# Altium integrated library Microchip PIC16 Part 1.IntLib: 1800 symbols (part 50 of 93)
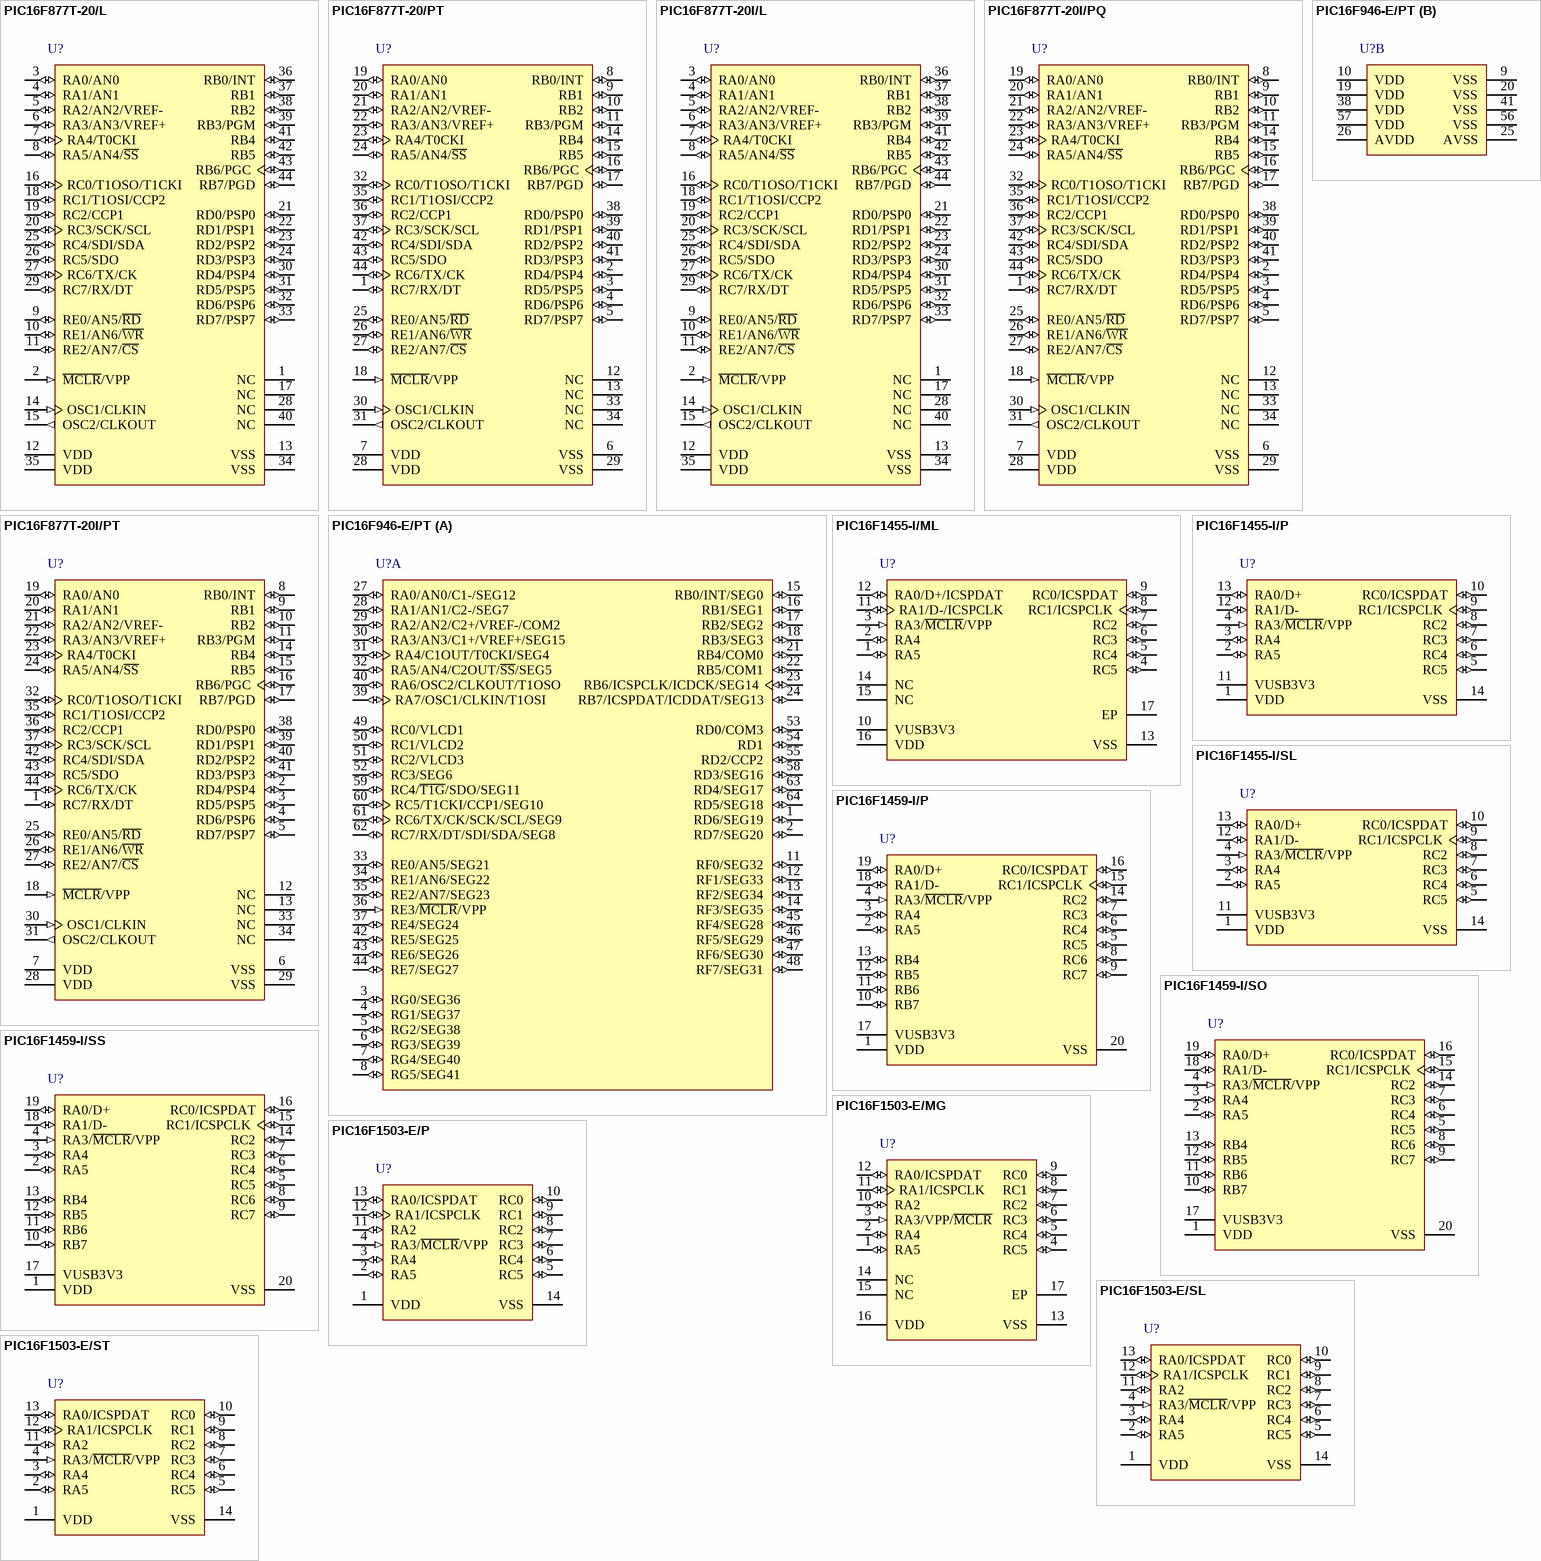
[diagram p148: symbols PIC16F877T-20/L to PIC16F1503-E/ST]

## PIC16F1455-I/ML
designator U?
8-Bit Flash USB Microcontroller with XLP Technology, 48 MHz, 11 I/O, -40 to 85 degC, 16-pin QFN (ML16), Tube; Manufacturer: Microchip; PartNumber: PIC16F1455-I/ML; # of A/D Channels: 5; Digital Communication: 1 -A/E/USART, 1 -MSSP(SPI/I2C); I/O Pins: 11; Max. CPU Speed MHz: 48; Operation Voltage Range: 2.3V - 5.5V; Program Memory KBytes: 14; Program Memory KWords: 8; RAM: 1024; Timers: 2 - 8-bit, 1 - 16-bit, 0 - 32-bit; DatasheetVersion: Rev. A; PackageVersion: C04-127B, 04/2013; PackageReference: QFN-ML16; PackageDescription: 16-Lead Plastic Quad Flat No Lead Package, Body 4 x 4 mm, Pitch 0.65 mm; Supplier 1: Digi-Key; Supplier Part Number 1: PIC16F1455-I/ML-ND; Supplier 2: Farnell; Supplier Part Number 2: 2305812; Supplier 3: Newark; Supplier Part Number 3: 83T7198; Supplier 4: Mouser; Supplier Part Number 4: 579-PIC16F1455-I/ML; Memory Type: Flash; Packing: TUBE; RoHS: TRUE; Mounting Technology: Surface Mount; ComponentLink1Description: Datasheet; ComponentLink1URL: http://ww1.microchip.com/downloads/en/DeviceDoc/41639A.pdf; ComponentLink2Description: Package Specification; ComponentLink2URL: http://www.microchip.com/stellent/groups/techpub_sg/documents/packagingspec/en012702.pdf; ComponentLink3Description: URL Link1; ComponentLink3URL: Product URL:http://www.microchip.com/datasheet/PIC16F1455
footprint MCHP-QFN-ML16_N (QFN, 16-Leads, Body 4x4mm, Pitch 0.65mm, Thermal Pad 2.65x2.65mm, IPC Medium Density)
footprint MCHP-QFN-ML16_L (QFN, 16-Leads, Body 4x4mm, Pitch 0.65mm, Thermal Pad 2.65x2.65mm, IPC High Density)
footprint MCHP-QFN-ML16_M (QFN, 16-Leads, Body 4x4mm, Pitch 0.65mm, Thermal Pad 2.65x2.65mm, IPC Low Density)
pins: 1 RA5 (io), 2 RA4 (io), 3 RA3/~{MCLR}/VPP (in), 4 RC5 (io), 5 RC4 (io), 6 RC3 (io), 7 RC2 (io), 8 RC1/ICSPCLK (io), 9 RC0/ICSPDAT (io), 10 VUSB3V3 (power) "Positive supply for USB transceiver.", 11 RA1/D-/ICSPCLK (io), 12 RA0/D+/ICSPDAT (io), 13 VSS (power) "Ground reference.", 14 NC, 15 NC, 16 VDD (power) "Positive supply.", 17 EP

## PIC16F1455-I/P
designator U?
8-Bit Flash USB Microcontroller with XLP Technology, 48 MHz, 11 I/O, -40 to 85 degC, 14-pin PDIP (P14), Tube; Manufacturer: Microchip; PartNumber: PIC16F1455-I/P; # of A/D Channels: 5; Digital Communication: 1 -A/E/USART, 1 -MSSP(SPI/I2C); I/O Pins: 11; Max. CPU Speed MHz: 48; Operation Voltage Range: 2.3V - 5.5V; Program Memory KBytes: 14; Program Memory KWords: 8; RAM: 1024; Timers: 2 - 8-bit, 1 - 16-bit, 0 - 32-bit; DatasheetVersion: Rev. A; PackageVersion: C04-005B, 12/2012; PackageReference: PDIP-P14; PackageDescription: 14-Lead Plastic Dual In-Line, 6.6 x 19.18 mm Body, 2.54 mm Pitch; Supplier 1: Digi-Key; Supplier Part Number 1: PIC16F1455-I/P-ND; Supplier 2: Farnell; Supplier Part Number 2: 2305813; Supplier 3: Newark; Supplier Part Number 3: 83T7199; Supplier 4: Mouser; Supplier Part Number 4: 579-PIC16F1455-I/P; Memory Type: Flash; Packing: TUBE; RoHS: TRUE; Mounting Technology: Through Hole; ComponentLink1Description: Datasheet; ComponentLink1URL: http://ww1.microchip.com/downloads/en/DeviceDoc/41639A.pdf; ComponentLink2Description: Package Specification; ComponentLink2URL: http://www.microchip.com/stellent/groups/techpub_sg/documents/packagingspec/en012702.pdf; ComponentLink3Description: URL Link1; ComponentLink3URL: Product URL:http://www.microchip.com/datasheet/PIC16F1455
footprint MCHP-PDIP-P14 (DIP, 14-Leads, Body 19.177x6.604mm, Pitch 2.54mm)
pins: 1 VDD (power) "Positive supply.", 2 RA5 (io), 3 RA4 (io), 4 RA3/~{MCLR}/VPP (in), 5 RC5 (io), 6 RC4 (io), 7 RC3 (io), 8 RC2 (io), 9 RC1/ICSPCLK (io), 10 RC0/ICSPDAT (io), 11 VUSB3V3 (power) "Positive supply for USB transceiver.", 12 RA1/D- (io), 13 RA0/D+ (io), 14 VSS (power) "Ground reference."

## PIC16F1455-I/SL
designator U?
8-Bit Flash USB Microcontroller with XLP Technology, 48 MHz, 11 I/O, -40 to 85 degC, 14-pin SOIC (SL14), Tube; Manufacturer: Microchip; PartNumber: PIC16F1455-I/SL; # of A/D Channels: 5; Digital Communication: 1 -A/E/USART, 1 -MSSP(SPI/I2C); I/O Pins: 11; Max. CPU Speed MHz: 48; Operation Voltage Range: 2.3V - 5.5V; Program Memory KBytes: 14; Program Memory KWords: 8; RAM: 1024; Timers: 2 - 8-bit, 1 - 16-bit, 0 - 32-bit; DatasheetVersion: Rev. A; PackageVersion: C04-065C, 12/2012; PackageReference: SOIC-SL14; PackageDescription: 14-Lead Plastic Small Outline, 8.65 x 3.9 mm Body, 1.27 mm Pitch; Supplier 1: Digi-Key; Supplier Part Number 1: PIC16F1455-I/SL-ND; Supplier 2: Farnell; Supplier Part Number 2: 2305814; Supplier 3: Newark; Supplier Part Number 3: 83T7200; Supplier 4: Mouser; Supplier Part Number 4: 579-PIC16F1455-I/SL; Memory Type: Flash; Packing: TUBE; RoHS: TRUE; Mounting Technology: Surface Mount; ComponentLink1Description: Datasheet; ComponentLink1URL: http://ww1.microchip.com/downloads/en/DeviceDoc/41639A.pdf; ComponentLink2Description: Package Specification; ComponentLink2URL: http://www.microchip.com/stellent/groups/techpub_sg/documents/packagingspec/en012702.pdf; ComponentLink3Description: URL Link1; ComponentLink3URL: Product URL:http://www.microchip.com/datasheet/PIC16F1455
footprint MCHP-SOIC-SL14_N (SOIC, 14-Leads, Body 8.65x3.9mm, Pitch 1.27mm, IPC Medium Density)
footprint MCHP-SOIC-SL14_L (SOIC, 14-Leads, Body 8.65x3.9mm, Pitch 1.27mm, IPC High Density)
footprint MCHP-SOIC-SL14_M (SOIC, 14-Leads, Body 8.65x3.9mm, Pitch 1.27mm, IPC Low Density)
pins: 1 VDD (power) "Positive supply.", 2 RA5 (io), 3 RA4 (io), 4 RA3/~{MCLR}/VPP (in), 5 RC5 (io), 6 RC4 (io), 7 RC3 (io), 8 RC2 (io), 9 RC1/ICSPCLK (io), 10 RC0/ICSPDAT (io), 11 VUSB3V3 (power) "Positive supply for USB transceiver.", 12 RA1/D- (io), 13 RA0/D+ (io), 14 VSS (power) "Ground reference."

## PIC16F1459-I/P
designator U?
8-Bit Flash USB Microcontroller with XLP Technology, 48 MHz, 14 I/O, -40 to 85 degC, 20-pin PDIP (P20), Tube; Manufacturer: Microchip; PartNumber: PIC16F1459-I/P; # of A/D Channels: 9; Digital Communication: 1 -A/E/USART, 1 -MSSP(SPI/I2C); I/O Pins: 14; Internal Oscillator: 16 MHz, 31 kHz; Max. CPU Speed MHz: 48; Operation Voltage Range: 2.3V - 5.5V; Program Memory KWords: 8; RAM: 1024; Timers: 2 - 8-bit, 1 - 16-bit, 0 - 32-bit; DatasheetVersion: Rev. A; PackageVersion: C04-019B, 12/2012; PackageReference: PDIP-P20; PackageDescription: 20-Lead Plastic Dual In-Line, Row Spacing 7.62 mm, 25.91 x 6.6 mm Body, 2.54 mm Pitch; Supplier 1: Digi-Key; Supplier Part Number 1: PIC16F1459-I/P-ND; Supplier 2: Farnell; Supplier Part Number 2: 2305816; Supplier 3: Newark; Supplier Part Number 3: 94T7605; Supplier 4: Mouser; Supplier Part Number 4: 579-PIC16F1459-I/P; Memory Type: Flash; Packing: TUBE; Program Memory KBytes: 14; RoHS: TRUE; Mounting Technology: Through Hole; ComponentLink1Description: Datasheet; ComponentLink1URL: http://ww1.microchip.com/downloads/en/DeviceDoc/41639A.pdf; ComponentLink2Description: Package Specification; ComponentLink2URL: http://www.microchip.com/stellent/groups/techpub_sg/documents/packagingspec/en012702.pdf; ComponentLink3Description: URL Link1; ComponentLink3URL: Product URL:http://www.microchip.com/datasheet/PIC16F1459
footprint MCHP-PDIP-P20 (DIP, 20-Leads, Body 25.91x6.6mm, Pitch 2.54mm)
pins: 1 VDD (power) "Positive supply.", 2 RA5 (io), 3 RA4 (io), 4 RA3/~{MCLR}/VPP (in), 5 RC5 (io), 6 RC4 (io), 7 RC3 (io), 8 RC6 (io), 9 RC7 (io), 10 RB7 (io), 11 RB6 (io), 12 RB5 (io), 13 RB4 (io), 14 RC2 (io), 15 RC1/ICSPCLK (io), 16 RC0/ICSPDAT (io), 17 VUSB3V3 (power) "Positive supply for USB transceiver.", 18 RA1/D- (io), 19 RA0/D+ (io), 20 VSS (power) "Ground reference."

## PIC16F1459-I/SO
designator U?
8-Bit Flash USB Microcontroller with XLP Technology, 48 MHz, 14 I/O, -40 to 85 degC, 20-pin SOIC (SO20), Tube; Manufacturer: Microchip; PartNumber: PIC16F1459-I/SO; # of A/D Channels: 9; Digital Communication: 1 -A/E/USART, 1 -MSSP(SPI/I2C); I/O Pins: 14; Internal Oscillator: 16 MHz, 31 kHz; Max. CPU Speed MHz: 48; Operation Voltage Range: 2.3V - 5.5V; Program Memory KWords: 8; RAM: 1024; Timers: 2 - 8-bit, 1 - 16-bit, 0 - 32-bit; DatasheetVersion: Rev. A; PackageVersion: C04-094C, 12/2012; PackageReference: SOIC-SO20; PackageDescription: 20-Lead Plastic Small Outline, 7.5 x 12.8 mm Body, 1.27 mm Pitch; Supplier 1: Digi-Key; Supplier Part Number 1: PIC16F1459-I/SO-ND; Supplier 2: Farnell; Supplier Part Number 2: 2305817; Supplier 3: Newark; Supplier Part Number 3: 83T7220; Supplier 4: Mouser; Supplier Part Number 4: 579-PIC16F1459-I/SO; Memory Type: Flash; Packing: TUBE; Program Memory KBytes: 14; RoHS: TRUE; Mounting Technology: Surface Mount; ComponentLink1Description: Datasheet; ComponentLink1URL: http://ww1.microchip.com/downloads/en/DeviceDoc/41639A.pdf; ComponentLink2Description: Package Specification; ComponentLink2URL: http://www.microchip.com/stellent/groups/techpub_sg/documents/packagingspec/en012702.pdf; ComponentLink3Description: URL Link1; ComponentLink3URL: Product URL:http://www.microchip.com/datasheet/PIC16F1459
footprint MCHP-SOIC-SO20_N (SOIC, 20-Leads, Body 12.8x7.5mm, Pitch 1.27mm, IPC Medium Density)
footprint MCHP-SOIC-SO20_L (SOIC, 20-Leads, Body 12.8x7.5mm, Pitch 1.27mm, IPC High Density)
footprint MCHP-SOIC-SO20_M (SOIC, 20-Leads, Body 12.8x7.5mm, Pitch 1.27mm, IPC Low Density)
pins: 1 VDD (power) "Positive supply.", 2 RA5 (io), 3 RA4 (io), 4 RA3/~{MCLR}/VPP (in), 5 RC5 (io), 6 RC4 (io), 7 RC3 (io), 8 RC6 (io), 9 RC7 (io), 10 RB7 (io), 11 RB6 (io), 12 RB5 (io), 13 RB4 (io), 14 RC2 (io), 15 RC1/ICSPCLK (io), 16 RC0/ICSPDAT (io), 17 VUSB3V3 (power) "Positive supply for USB transceiver.", 18 RA1/D- (io), 19 RA0/D+ (io), 20 VSS (power) "Ground reference."

## PIC16F1459-I/SS
designator U?
8-Bit Flash USB Microcontroller with XLP Technology, 48 MHz, 14 I/O, -40 to 85 degC, 20-pin SSOP (SS20), Tube; Manufacturer: Microchip; PartNumber: PIC16F1459-I/SS; # of A/D Channels: 9; Digital Communication: 1 -A/E/USART, 1 -MSSP(SPI/I2C); I/O Pins: 14; Internal Oscillator: 16 MHz, 31 kHz; Max. CPU Speed MHz: 48; Operation Voltage Range: 2.3V - 5.5V; Program Memory KWords: 8; RAM: 1024; Timers: 2 - 8-bit, 1 - 16-bit, 0 - 32-bit; DatasheetVersion: Rev. A; PackageVersion: C04-072B, 12/2012; PackageReference: SSOP-SS20; PackageDescription: 20-Lead Plastic Shrink Small Outline, 5.3 x 7.2 mm Body, 0.65 mm Pitch; Supplier 1: Digi-Key; Supplier Part Number 1: PIC16F1459-I/SS-ND; Supplier 2: Farnell; Supplier Part Number 2: 2305818; Supplier 3: Newark; Supplier Part Number 3: 83T7221; Supplier 4: Newark; Supplier Part Number 4: 69W6672; Supplier 5: Mouser; Supplier Part Number 5: 579-PIC16F1459-I/SS; Memory Type: Flash; Packing: TUBE; Program Memory KBytes: 14; RoHS: TRUE; Mounting Technology: Surface Mount; ComponentLink1Description: Datasheet; ComponentLink1URL: http://ww1.microchip.com/downloads/en/DeviceDoc/41639A.pdf; ComponentLink2Description: Package Specification; ComponentLink2URL: http://www.microchip.com/stellent/groups/techpub_sg/documents/packagingspec/en012702.pdf; ComponentLink3Description: URL Link1; ComponentLink3URL: Product URL:http://www.microchip.com/datasheet/PIC16F1459
footprint MCHP-SSOP-SS20_N (SOP, 20-Leads, Body 7.2x5.3mm, Pitch 0.65mm, IPC Medium Density)
footprint MCHP-SSOP-SS20_L (SOP, 20-Leads, Body 7.2x5.3mm, Pitch 0.65mm, IPC High Density)
footprint MCHP-SSOP-SS20_M (SOP, 20-Leads, Body 7.2x5.3mm, Pitch 0.65mm, IPC Low Density)
pins: 1 VDD (power) "Positive supply.", 2 RA5 (io), 3 RA4 (io), 4 RA3/~{MCLR}/VPP (in), 5 RC5 (io), 6 RC4 (io), 7 RC3 (io), 8 RC6 (io), 9 RC7 (io), 10 RB7 (io), 11 RB6 (io), 12 RB5 (io), 13 RB4 (io), 14 RC2 (io), 15 RC1/ICSPCLK (io), 16 RC0/ICSPDAT (io), 17 VUSB3V3 (power) "Positive supply for USB transceiver.", 18 RA1/D- (io), 19 RA0/D+ (io), 20 VSS (power) "Ground reference."

## PIC16F1503-E/MG
designator U?
Flash, 8-Bit Microcontroller, 20 MHz, 11 I/O, -40 to 125 degC, 16-pin QFN (MG16), Tube; Manufacturer: Microchip; PartNumber: PIC16F1503-E/MG; # of A/D Channels: 8; Digital Communication: 1 -MSSP(SPI/I2C); I/O Pins: 11; Internal Oscillator: 16 MHz, 31 kHz; Max. CPU Speed MHz: 20; Operation Voltage Range: 2.3V - 5.5V; Program Memory KBytes: 3.5; Program Memory KWords: 2; RAM: 128; Timers: 2 - 8-bit, 1 - 16-bit; DatasheetVersion: Rev. A; PackageVersion: C04-142A, 12/2012; PackageReference: QFN-MG16; PackageDescription: 16-Lead Plastic Quad Flat, No Lead Package, 3 x 3 mm Body, 0.5 mm Pitch; Supplier 1: Digi-Key; Supplier Part Number 1: PIC16F1503-E/MG-ND; Supplier 2: Newark; Supplier Part Number 2: 55T3628; Supplier 3: Mouser; Supplier Part Number 3: 579-PIC16F1503-E/MG; Memory Type: Flash; Packing: TUBE; RoHS: TRUE; Mounting Technology: Surface Mount; ComponentLink1Description: Datasheet; ComponentLink1URL: http://ww1.microchip.com/downloads/en/DeviceDoc/41607A.pdf; ComponentLink2Description: Package Specification; ComponentLink2URL: http://www.microchip.com/stellent/groups/techpub_sg/documents/packagingspec/en012702.pdf; ComponentLink3Description: URL Link1; ComponentLink3URL: Product URL:http://www.microchip.com/datasheet/PIC16F1503
footprint MCHP-QFN-MG16_N (QFN, 16-Leads, Body 3x3mm, Pitch 0.5mm, Thermal Pad 1.25x1.25mm, IPC Medium Density)
footprint MCHP-QFN-MG16_L (QFN, 16-Leads, Body 3x3mm, Pitch 0.5mm, Thermal Pad 1.25x1.25mm, IPC High Density)
footprint MCHP-QFN-MG16_M (QFN, 16-Leads, Body 3x3mm, Pitch 0.5mm, Thermal Pad 1.25x1.25mm, IPC Low Density)
pins: 1 RA5 (io), 2 RA4 (io), 3 RA3/VPP/~{MCLR} (in), 4 RC5 (io), 5 RC4 (io), 6 RC3 (io), 7 RC2 (io), 8 RC1 (io), 9 RC0 (io), 10 RA2 (io), 11 RA1/ICSPCLK (io), 12 RA0/ICSPDAT (io), 13 VSS (power) "Ground reference.", 14 NC, 15 NC, 16 VDD (power) "Positive supply.", 17 EP

## PIC16F1503-E/P
designator U?
Flash, 8-Bit Microcontroller, 20 MHz, 11 I/O, -40 to 125 degC, 14-pin PDIP (P14), Tube; Manufacturer: Microchip; PartNumber: PIC16F1503-E/P; # of A/D Channels: 8; Digital Communication: 1 -MSSP(SPI/I2C); I/O Pins: 11; Internal Oscillator: 16 MHz, 31 kHz; Max. CPU Speed MHz: 20; Operation Voltage Range: 2.3V - 5.5V; Program Memory KBytes: 3.5; Program Memory KWords: 2; RAM: 128; Timers: 2 - 8-bit, 1 - 16-bit; DatasheetVersion: Rev. A; PackageVersion: C04-005B, 12/2012; PackageReference: PDIP-P14; PackageDescription: 14-Lead Plastic Dual In-Line, 6.6 x 19.18 mm Body, 2.54 mm Pitch; Supplier 1: Digi-Key; Supplier Part Number 1: PIC16F1503-E/P-ND; Supplier 2: Mouser; Supplier Part Number 2: 579-PIC16F1503-E/P; Memory Type: Flash; Packing: TUBE; RoHS: TRUE; Mounting Technology: Through Hole; ComponentLink1Description: Datasheet; ComponentLink1URL: http://ww1.microchip.com/downloads/en/DeviceDoc/41607A.pdf; ComponentLink2Description: Package Specification; ComponentLink2URL: http://www.microchip.com/stellent/groups/techpub_sg/documents/packagingspec/en012702.pdf; ComponentLink3Description: URL Link1; ComponentLink3URL: Product URL:http://www.microchip.com/datasheet/PIC16F1503
footprint MCHP-PDIP-P14 (DIP, 14-Leads, Body 19.177x6.604mm, Pitch 2.54mm)
pins: 1 VDD (power) "Positive supply", 2 RA5 (io), 3 RA4 (io), 4 RA3/~{MCLR}/VPP (in), 5 RC5 (io), 6 RC4 (io), 7 RC3 (io), 8 RC2 (io), 9 RC1 (io), 10 RC0 (io), 11 RA2 (io), 12 RA1/ICSPCLK (io), 13 RA0/ICSPDAT (io), 14 VSS (power) "Ground reference."

## PIC16F1503-E/SL
designator U?
Flash, 8-Bit Microcontroller, 20 MHz, 11 I/O, -40 to 125 degC, 14-pin SOIC (SL14), Tube; Manufacturer: Microchip; PartNumber: PIC16F1503-E/SL; # of A/D Channels: 8; Digital Communication: 1 -MSSP(SPI/I2C); I/O Pins: 11; Internal Oscillator: 16 MHz, 31 kHz; Max. CPU Speed MHz: 20; Operation Voltage Range: 2.3V - 5.5V; Program Memory KBytes: 3.5; Program Memory KWords: 2; RAM: 128; Timers: 2 - 8-bit, 1 - 16-bit; DatasheetVersion: Rev. A; PackageVersion: C04-065C, 12/2012; PackageReference: SOIC-SL14; PackageDescription: 14-Lead Plastic Small Outline, 8.65 x 3.9 mm Body, 1.27 mm Pitch; Supplier 1: Digi-Key; Supplier Part Number 1: PIC16F1503-E/SL-ND; Supplier 2: Newark; Supplier Part Number 2: 55T3630; Supplier 3: Mouser; Supplier Part Number 3: 579-PIC16F1503-E/SL; Memory Type: Flash; Packing: TUBE; RoHS: TRUE; Mounting Technology: Surface Mount; ComponentLink1Description: Datasheet; ComponentLink1URL: http://ww1.microchip.com/downloads/en/DeviceDoc/41607A.pdf; ComponentLink2Description: Package Specification; ComponentLink2URL: http://www.microchip.com/stellent/groups/techpub_sg/documents/packagingspec/en012702.pdf; ComponentLink3Description: URL Link1; ComponentLink3URL: Product URL:http://www.microchip.com/datasheet/PIC16F1503
footprint MCHP-SOIC-SL14_N (SOIC, 14-Leads, Body 8.65x3.9mm, Pitch 1.27mm, IPC Medium Density)
footprint MCHP-SOIC-SL14_L (SOIC, 14-Leads, Body 8.65x3.9mm, Pitch 1.27mm, IPC High Density)
footprint MCHP-SOIC-SL14_M (SOIC, 14-Leads, Body 8.65x3.9mm, Pitch 1.27mm, IPC Low Density)
pins: 1 VDD (power) "Positive supply", 2 RA5 (io), 3 RA4 (io), 4 RA3/~{MCLR}/VPP (in), 5 RC5 (io), 6 RC4 (io), 7 RC3 (io), 8 RC2 (io), 9 RC1 (io), 10 RC0 (io), 11 RA2 (io), 12 RA1/ICSPCLK (io), 13 RA0/ICSPDAT (io), 14 VSS (power) "Ground reference."

## PIC16F1503-E/ST
designator U?
Flash, 8-Bit Microcontroller, 20 MHz, 11 I/O, -40 to 125 degC, 14-pin TSSOP (ST14), Tube; Manufacturer: Microchip; PartNumber: PIC16F1503-E/ST; # of A/D Channels: 8; Digital Communication: 1 -MSSP(SPI/I2C); I/O Pins: 11; Internal Oscillator: 16 MHz, 31 kHz; Max. CPU Speed MHz: 20; Operation Voltage Range: 2.3V - 5.5V; Program Memory KBytes: 3.5; Program Memory KWords: 2; RAM: 128; Timers: 2 - 8-bit, 1 - 16-bit; DatasheetVersion: Rev. A; PackageVersion: C04-087C, 12/2012; PackageReference: TSSOP-ST14; PackageDescription: 14-Lead Plastic Thin Shrink Small Outline, 5 x 4.4 mm Body, 0.65 mm Pitch; Supplier 1: Digi-Key; Supplier Part Number 1: PIC16F1503-E/ST-ND; Supplier 2: Newark; Supplier Part Number 2: 55T3631; Supplier 3: Mouser; Supplier Part Number 3: 579-PIC16F1503-E/ST; Memory Type: Flash; Packing: TUBE; RoHS: TRUE; Mounting Technology: Surface Mount; ComponentLink1Description: Datasheet; ComponentLink1URL: http://ww1.microchip.com/downloads/en/DeviceDoc/41607A.pdf; ComponentLink2Description: Package Specification; ComponentLink2URL: http://www.microchip.com/stellent/groups/techpub_sg/documents/packagingspec/en012702.pdf; ComponentLink3Description: URL Link1; ComponentLink3URL: Product URL:http://www.microchip.com/datasheet/PIC16F1503
footprint MCHP-TSSOP-ST14_N (SOP, 14-Leads, Body 5x4.4mm, Pitch 0.65mm, IPC Medium Density)
footprint MCHP-TSSOP-ST14_L (SOP, 14-Leads, Body 5x4.4mm, Pitch 0.65mm, IPC High Density)
footprint MCHP-TSSOP-ST14_M (SOP, 14-Leads, Body 5x4.4mm, Pitch 0.65mm, IPC Low Density)
pins: 1 VDD (power) "Positive supply", 2 RA5 (io), 3 RA4 (io), 4 RA3/~{MCLR}/VPP (in), 5 RC5 (io), 6 RC4 (io), 7 RC3 (io), 8 RC2 (io), 9 RC1 (io), 10 RC0 (io), 11 RA2 (io), 12 RA1/ICSPCLK (io), 13 RA0/ICSPDAT (io), 14 VSS (power) "Ground reference."

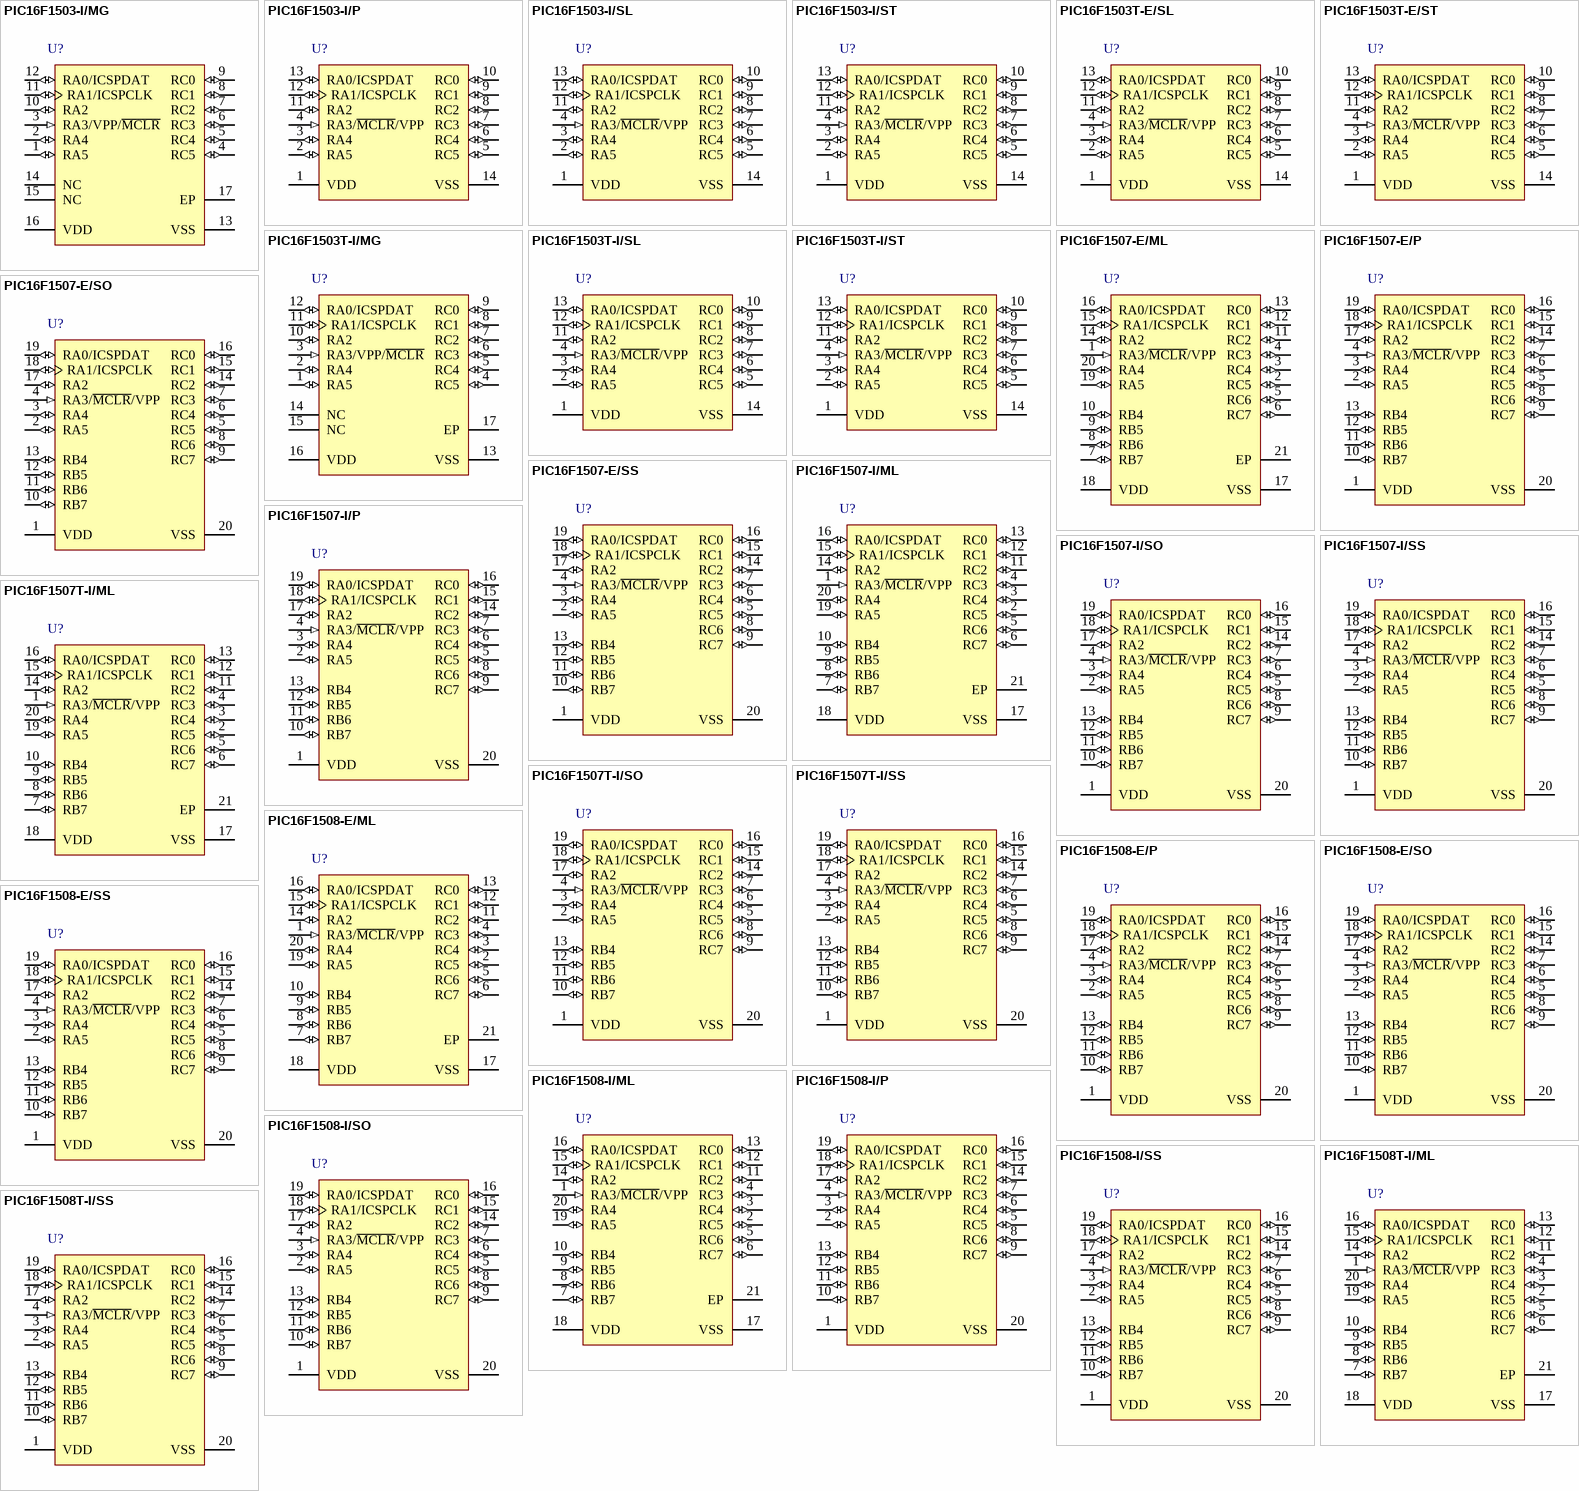
[diagram p49: symbols PIC16F1503-I/MG to PIC16F1508T-I/SS]

## PIC16F1503-I/MG
designator U?
Flash, 8-Bit Microcontroller, 20 MHz, 11 I/O, -40 to 85 degC, 16-pin QFN (MG16), Tube; Manufacturer: Microchip; PartNumber: PIC16F1503-I/MG; # of A/D Channels: 8; Digital Communication: 1 -MSSP(SPI/I2C); I/O Pins: 11; Internal Oscillator: 16 MHz, 31 kHz; Max. CPU Speed MHz: 20; Operation Voltage Range: 2.3V - 5.5V; Program Memory KBytes: 3.5; Program Memory KWords: 2; RAM: 128; Timers: 2 - 8-bit, 1 - 16-bit; DatasheetVersion: Rev. A; PackageVersion: C04-142A, 12/2012; PackageReference: QFN-MG16; PackageDescription: 16-Lead Plastic Quad Flat, No Lead Package, 3 x 3 mm Body, 0.5 mm Pitch; Supplier 1: Digi-Key; Supplier Part Number 1: PIC16F1503-I/MG-ND; Supplier 2: Farnell; Supplier Part Number 2: 2068607; Supplier 3: Newark; Supplier Part Number 3: 55T3632; Supplier 4: Mouser; Supplier Part Number 4: 579-PIC16F1503-I/MG; Memory Type: Flash; Packing: TUBE; RoHS: TRUE; Mounting Technology: Surface Mount; ComponentLink1Description: Datasheet; ComponentLink1URL: http://ww1.microchip.com/downloads/en/DeviceDoc/41607A.pdf; ComponentLink2Description: Package Specification; ComponentLink2URL: http://www.microchip.com/stellent/groups/techpub_sg/documents/packagingspec/en012702.pdf; ComponentLink3Description: URL Link1; ComponentLink3URL: Product URL:http://www.microchip.com/datasheet/PIC16F1503
footprint MCHP-QFN-MG16_N (QFN, 16-Leads, Body 3x3mm, Pitch 0.5mm, Thermal Pad 1.25x1.25mm, IPC Medium Density)
footprint MCHP-QFN-MG16_L (QFN, 16-Leads, Body 3x3mm, Pitch 0.5mm, Thermal Pad 1.25x1.25mm, IPC High Density)
footprint MCHP-QFN-MG16_M (QFN, 16-Leads, Body 3x3mm, Pitch 0.5mm, Thermal Pad 1.25x1.25mm, IPC Low Density)
pins: 1 RA5 (io), 2 RA4 (io), 3 RA3/VPP/~{MCLR} (in), 4 RC5 (io), 5 RC4 (io), 6 RC3 (io), 7 RC2 (io), 8 RC1 (io), 9 RC0 (io), 10 RA2 (io), 11 RA1/ICSPCLK (io), 12 RA0/ICSPDAT (io), 13 VSS (power) "Ground reference.", 14 NC, 15 NC, 16 VDD (power) "Positive supply.", 17 EP

## PIC16F1503-I/P
designator U?
Flash, 8-Bit Microcontroller, 20 MHz, 11 I/O, -40 to 85 degC, 14-pin PDIP (P14), Tube; Manufacturer: Microchip; PartNumber: PIC16F1503-I/P; # of A/D Channels: 8; Digital Communication: 1 -MSSP(SPI/I2C); I/O Pins: 11; Internal Oscillator: 16 MHz, 31 kHz; Max. CPU Speed MHz: 20; Operation Voltage Range: 2.3V - 5.5V; Program Memory KBytes: 3.5; Program Memory KWords: 2; RAM: 128; Timers: 2 - 8-bit, 1 - 16-bit; DatasheetVersion: Rev. A; PackageVersion: C04-005B, 12/2012; PackageReference: PDIP-P14; PackageDescription: 14-Lead Plastic Dual In-Line, 6.6 x 19.18 mm Body, 2.54 mm Pitch; Supplier 1: Digi-Key; Supplier Part Number 1: PIC16F1503-I/P-ND; Supplier 2: Farnell; Supplier Part Number 2: 2068608; Supplier 3: Newark; Supplier Part Number 3: 55T3633; Supplier 4: Mouser; Supplier Part Number 4: 579-PIC16F1503-I/P; Memory Type: Flash; Packing: TUBE; RoHS: TRUE; Mounting Technology: Through Hole; ComponentLink1Description: Datasheet; ComponentLink1URL: http://ww1.microchip.com/downloads/en/DeviceDoc/41607A.pdf; ComponentLink2Description: Package Specification; ComponentLink2URL: http://www.microchip.com/stellent/groups/techpub_sg/documents/packagingspec/en012702.pdf; ComponentLink3Description: URL Link1; ComponentLink3URL: Product URL:http://www.microchip.com/datasheet/PIC16F1503
footprint MCHP-PDIP-P14 (DIP, 14-Leads, Body 19.177x6.604mm, Pitch 2.54mm)
pins: 1 VDD (power) "Positive supply", 2 RA5 (io), 3 RA4 (io), 4 RA3/~{MCLR}/VPP (in), 5 RC5 (io), 6 RC4 (io), 7 RC3 (io), 8 RC2 (io), 9 RC1 (io), 10 RC0 (io), 11 RA2 (io), 12 RA1/ICSPCLK (io), 13 RA0/ICSPDAT (io), 14 VSS (power) "Ground reference."

## PIC16F1503-I/SL
designator U?
Flash, 8-Bit Microcontroller, 20 MHz, 11 I/O, -40 to 85 degC, 14-pin SOIC (SL14), Tube; Manufacturer: Microchip; PartNumber: PIC16F1503-I/SL; # of A/D Channels: 8; Digital Communication: 1 -MSSP(SPI/I2C); I/O Pins: 11; Internal Oscillator: 16 MHz, 31 kHz; Max. CPU Speed MHz: 20; Operation Voltage Range: 2.3V - 5.5V; Program Memory KBytes: 3.5; Program Memory KWords: 2; RAM: 128; Timers: 2 - 8-bit, 1 - 16-bit; DatasheetVersion: Rev. A; PackageVersion: C04-065C, 12/2012; PackageReference: SOIC-SL14; PackageDescription: 14-Lead Plastic Small Outline, 8.65 x 3.9 mm Body, 1.27 mm Pitch; Supplier 1: Digi-Key; Supplier Part Number 1: PIC16F1503-I/SL-ND; Supplier 2: Farnell; Supplier Part Number 2: 2068609; Supplier 3: Newark; Supplier Part Number 3: 55T3634; Supplier 4: Mouser; Supplier Part Number 4: 579-PIC16F1503-I/SL; Memory Type: Flash; Packing: TUBE; RoHS: TRUE; Mounting Technology: Surface Mount; ComponentLink1Description: Datasheet; ComponentLink1URL: http://ww1.microchip.com/downloads/en/DeviceDoc/41607A.pdf; ComponentLink2Description: Package Specification; ComponentLink2URL: http://www.microchip.com/stellent/groups/techpub_sg/documents/packagingspec/en012702.pdf; ComponentLink3Description: URL Link1; ComponentLink3URL: Product URL:http://www.microchip.com/datasheet/PIC16F1503
footprint MCHP-SOIC-SL14_N (SOIC, 14-Leads, Body 8.65x3.9mm, Pitch 1.27mm, IPC Medium Density)
footprint MCHP-SOIC-SL14_L (SOIC, 14-Leads, Body 8.65x3.9mm, Pitch 1.27mm, IPC High Density)
footprint MCHP-SOIC-SL14_M (SOIC, 14-Leads, Body 8.65x3.9mm, Pitch 1.27mm, IPC Low Density)
pins: 1 VDD (power) "Positive supply", 2 RA5 (io), 3 RA4 (io), 4 RA3/~{MCLR}/VPP (in), 5 RC5 (io), 6 RC4 (io), 7 RC3 (io), 8 RC2 (io), 9 RC1 (io), 10 RC0 (io), 11 RA2 (io), 12 RA1/ICSPCLK (io), 13 RA0/ICSPDAT (io), 14 VSS (power) "Ground reference."

## PIC16F1503-I/ST
designator U?
Flash, 8-Bit Microcontroller, 20 MHz, 11 I/O, -40 to 85 degC, 14-pin TSSOP (ST14), Tube; Manufacturer: Microchip; PartNumber: PIC16F1503-I/ST; # of A/D Channels: 8; Digital Communication: 1 -MSSP(SPI/I2C); I/O Pins: 11; Internal Oscillator: 16 MHz, 31 kHz; Max. CPU Speed MHz: 20; Operation Voltage Range: 2.3V - 5.5V; Program Memory KBytes: 3.5; Program Memory KWords: 2; RAM: 128; Timers: 2 - 8-bit, 1 - 16-bit; DatasheetVersion: Rev. A; PackageVersion: C04-087C, 12/2012; PackageReference: TSSOP-ST14; PackageDescription: 14-Lead Plastic Thin Shrink Small Outline, 5 x 4.4 mm Body, 0.65 mm Pitch; Supplier 1: Digi-Key; Supplier Part Number 1: PIC16F1503-I/ST-ND; Supplier 2: Farnell; Supplier Part Number 2: 2068610; Supplier 3: Newark; Supplier Part Number 3: 55T3635; Supplier 4: Mouser; Supplier Part Number 4: 579-PIC16F1503-I/ST; Memory Type: Flash; Packing: TUBE; RoHS: TRUE; Mounting Technology: Surface Mount; ComponentLink1Description: Datasheet; ComponentLink1URL: http://ww1.microchip.com/downloads/en/DeviceDoc/41607A.pdf; ComponentLink2Description: Package Specification; ComponentLink2URL: http://www.microchip.com/stellent/groups/techpub_sg/documents/packagingspec/en012702.pdf; ComponentLink3Description: URL Link1; ComponentLink3URL: Product URL:http://www.microchip.com/datasheet/PIC16F1503
footprint MCHP-TSSOP-ST14_N (SOP, 14-Leads, Body 5x4.4mm, Pitch 0.65mm, IPC Medium Density)
footprint MCHP-TSSOP-ST14_L (SOP, 14-Leads, Body 5x4.4mm, Pitch 0.65mm, IPC High Density)
footprint MCHP-TSSOP-ST14_M (SOP, 14-Leads, Body 5x4.4mm, Pitch 0.65mm, IPC Low Density)
pins: 1 VDD (power) "Positive supply", 2 RA5 (io), 3 RA4 (io), 4 RA3/~{MCLR}/VPP (in), 5 RC5 (io), 6 RC4 (io), 7 RC3 (io), 8 RC2 (io), 9 RC1 (io), 10 RC0 (io), 11 RA2 (io), 12 RA1/ICSPCLK (io), 13 RA0/ICSPDAT (io), 14 VSS (power) "Ground reference."

## PIC16F1503T-E/SL
designator U?
Flash, 8-Bit Microcontroller, 20 MHz, 11 I/O, -40 to 125 degC, 14-pin SOIC (SL14), Tape and Reel; Manufacturer: Microchip; PartNumber: PIC16F1503T-E/SL; # of A/D Channels: 8; Digital Communication: 1 -MSSP(SPI/I2C); I/O Pins: 11; Internal Oscillator: 16 MHz, 31 kHz; Max. CPU Speed MHz: 20; Operation Voltage Range: 2.3V - 5.5V; Packing: T/R; Program Memory KBytes: 3.5; Program Memory KWords: 2; RAM: 128; Timers: 2 - 8-bit, 1 - 16-bit; DatasheetVersion: Rev. A; PackageVersion: C04-065C, 12/2012; PackageReference: SOIC-SL14; PackageDescription: 14-Lead Plastic Small Outline, 8.65 x 3.9 mm Body, 1.27 mm Pitch; Memory Type: Flash; RoHS: TRUE; Mounting Technology: Surface Mount; ComponentLink1Description: Datasheet; ComponentLink1URL: http://ww1.microchip.com/downloads/en/DeviceDoc/41607A.pdf; ComponentLink2Description: Package Specification; ComponentLink2URL: http://www.microchip.com/stellent/groups/techpub_sg/documents/packagingspec/en012702.pdf; ComponentLink3Description: URL Link1; ComponentLink3URL: Product URL:http://www.microchip.com/datasheet/PIC16F1503
footprint MCHP-SOIC-SL14_N (SOIC, 14-Leads, Body 8.65x3.9mm, Pitch 1.27mm, IPC Medium Density)
footprint MCHP-SOIC-SL14_L (SOIC, 14-Leads, Body 8.65x3.9mm, Pitch 1.27mm, IPC High Density)
footprint MCHP-SOIC-SL14_M (SOIC, 14-Leads, Body 8.65x3.9mm, Pitch 1.27mm, IPC Low Density)
pins: 1 VDD (power) "Positive supply", 2 RA5 (io), 3 RA4 (io), 4 RA3/~{MCLR}/VPP (in), 5 RC5 (io), 6 RC4 (io), 7 RC3 (io), 8 RC2 (io), 9 RC1 (io), 10 RC0 (io), 11 RA2 (io), 12 RA1/ICSPCLK (io), 13 RA0/ICSPDAT (io), 14 VSS (power) "Ground reference."

## PIC16F1503T-E/ST
designator U?
Flash, 8-Bit Microcontroller, 20 MHz, 11 I/O, -40 to 125 degC, 14-pin TSSOP (ST14), Tape and Reel; Manufacturer: Microchip; PartNumber: PIC16F1503T-E/ST; # of A/D Channels: 8; Digital Communication: 1 -MSSP(SPI/I2C); I/O Pins: 11; Internal Oscillator: 16 MHz, 31 kHz; Max. CPU Speed MHz: 20; Operation Voltage Range: 2.3V - 5.5V; Packing: T/R; Program Memory KBytes: 3.5; Program Memory KWords: 2; RAM: 128; Timers: 2 - 8-bit, 1 - 16-bit; DatasheetVersion: Rev. A; PackageVersion: C04-087C, 12/2012; PackageReference: TSSOP-ST14; PackageDescription: 14-Lead Plastic Thin Shrink Small Outline, 5 x 4.4 mm Body, 0.65 mm Pitch; Memory Type: Flash; RoHS: TRUE; Mounting Technology: Surface Mount; ComponentLink1Description: Datasheet; ComponentLink1URL: http://ww1.microchip.com/downloads/en/DeviceDoc/41607A.pdf; ComponentLink2Description: Package Specification; ComponentLink2URL: http://www.microchip.com/stellent/groups/techpub_sg/documents/packagingspec/en012702.pdf; ComponentLink3Description: URL Link1; ComponentLink3URL: Product URL:http://www.microchip.com/datasheet/PIC16F1503
footprint MCHP-TSSOP-ST14_N (SOP, 14-Leads, Body 5x4.4mm, Pitch 0.65mm, IPC Medium Density)
footprint MCHP-TSSOP-ST14_L (SOP, 14-Leads, Body 5x4.4mm, Pitch 0.65mm, IPC High Density)
footprint MCHP-TSSOP-ST14_M (SOP, 14-Leads, Body 5x4.4mm, Pitch 0.65mm, IPC Low Density)
pins: 1 VDD (power) "Positive supply", 2 RA5 (io), 3 RA4 (io), 4 RA3/~{MCLR}/VPP (in), 5 RC5 (io), 6 RC4 (io), 7 RC3 (io), 8 RC2 (io), 9 RC1 (io), 10 RC0 (io), 11 RA2 (io), 12 RA1/ICSPCLK (io), 13 RA0/ICSPDAT (io), 14 VSS (power) "Ground reference."

## PIC16F1503T-I/MG
designator U?
Flash, 8-Bit Microcontroller, 20 MHz, 11 I/O, -40 to 85 degC, 16-pin QFN (MG16), Tape and Reel; Manufacturer: Microchip; PartNumber: PIC16F1503T-I/MG; # of A/D Channels: 8; Digital Communication: 1 -MSSP(SPI/I2C); I/O Pins: 11; Internal Oscillator: 16 MHz, 31 kHz; Max. CPU Speed MHz: 20; Operation Voltage Range: 2.3V - 5.5V; Packing: T/R; Program Memory KBytes: 3.5; Program Memory KWords: 2; RAM: 128; Timers: 2 - 8-bit, 1 - 16-bit; DatasheetVersion: Rev. A; PackageVersion: C04-142A, 12/2012; PackageReference: QFN-MG16; PackageDescription: 16-Lead Plastic Quad Flat, No Lead Package, 3 x 3 mm Body, 0.5 mm Pitch; Supplier 1: Digi-Key; Supplier Part Number 1: PIC16F1503T-I/MG-ND; Supplier 2: Mouser; Supplier Part Number 2: 579-PIC16F1503T-I/MG; Memory Type: Flash; RoHS: TRUE; Mounting Technology: Surface Mount; ComponentLink1Description: Datasheet; ComponentLink1URL: http://ww1.microchip.com/downloads/en/DeviceDoc/41607A.pdf; ComponentLink2Description: Package Specification; ComponentLink2URL: http://www.microchip.com/stellent/groups/techpub_sg/documents/packagingspec/en012702.pdf; ComponentLink3Description: URL Link1; ComponentLink3URL: Product URL:http://www.microchip.com/datasheet/PIC16F1503
footprint MCHP-QFN-MG16_N (QFN, 16-Leads, Body 3x3mm, Pitch 0.5mm, Thermal Pad 1.25x1.25mm, IPC Medium Density)
footprint MCHP-QFN-MG16_L (QFN, 16-Leads, Body 3x3mm, Pitch 0.5mm, Thermal Pad 1.25x1.25mm, IPC High Density)
footprint MCHP-QFN-MG16_M (QFN, 16-Leads, Body 3x3mm, Pitch 0.5mm, Thermal Pad 1.25x1.25mm, IPC Low Density)
pins: 1 RA5 (io), 2 RA4 (io), 3 RA3/VPP/~{MCLR} (in), 4 RC5 (io), 5 RC4 (io), 6 RC3 (io), 7 RC2 (io), 8 RC1 (io), 9 RC0 (io), 10 RA2 (io), 11 RA1/ICSPCLK (io), 12 RA0/ICSPDAT (io), 13 VSS (power) "Ground reference.", 14 NC, 15 NC, 16 VDD (power) "Positive supply.", 17 EP

## PIC16F1503T-I/SL
designator U?
Flash, 8-Bit Microcontroller, 20 MHz, 11 I/O, -40 to 85 degC, 14-pin SOIC (SL14), Tape and Reel; Manufacturer: Microchip; PartNumber: PIC16F1503T-I/SL; # of A/D Channels: 8; Digital Communication: 1 -MSSP(SPI/I2C); I/O Pins: 11; Internal Oscillator: 16 MHz, 31 kHz; Max. CPU Speed MHz: 20; Operation Voltage Range: 2.3V - 5.5V; Packing: T/R; Program Memory KBytes: 3.5; Program Memory KWords: 2; RAM: 128; Timers: 2 - 8-bit, 1 - 16-bit; DatasheetVersion: Rev. A; PackageVersion: C04-065C, 12/2012; PackageReference: SOIC-SL14; PackageDescription: 14-Lead Plastic Small Outline, 8.65 x 3.9 mm Body, 1.27 mm Pitch; Supplier 1: Digi-Key; Supplier Part Number 1: PIC16F1503T-I/SL-ND; Supplier 2: Mouser; Supplier Part Number 2: 579-PIC16F1503T-I/SL; Memory Type: Flash; RoHS: TRUE; Mounting Technology: Surface Mount; ComponentLink1Description: Datasheet; ComponentLink1URL: http://ww1.microchip.com/downloads/en/DeviceDoc/41607A.pdf; ComponentLink2Description: Package Specification; ComponentLink2URL: http://www.microchip.com/stellent/groups/techpub_sg/documents/packagingspec/en012702.pdf; ComponentLink3Description: URL Link1; ComponentLink3URL: Product URL:http://www.microchip.com/datasheet/PIC16F1503
footprint MCHP-SOIC-SL14_N (SOIC, 14-Leads, Body 8.65x3.9mm, Pitch 1.27mm, IPC Medium Density)
footprint MCHP-SOIC-SL14_L (SOIC, 14-Leads, Body 8.65x3.9mm, Pitch 1.27mm, IPC High Density)
footprint MCHP-SOIC-SL14_M (SOIC, 14-Leads, Body 8.65x3.9mm, Pitch 1.27mm, IPC Low Density)
pins: 1 VDD (power) "Positive supply", 2 RA5 (io), 3 RA4 (io), 4 RA3/~{MCLR}/VPP (in), 5 RC5 (io), 6 RC4 (io), 7 RC3 (io), 8 RC2 (io), 9 RC1 (io), 10 RC0 (io), 11 RA2 (io), 12 RA1/ICSPCLK (io), 13 RA0/ICSPDAT (io), 14 VSS (power) "Ground reference."

## PIC16F1503T-I/ST
designator U?
Flash, 8-Bit Microcontroller, 20 MHz, 11 I/O, -40 to 85 degC, 14-pin TSSOP (ST14), Tape and Reel; Manufacturer: Microchip; PartNumber: PIC16F1503T-I/ST; # of A/D Channels: 8; Digital Communication: 1 -MSSP(SPI/I2C); I/O Pins: 11; Internal Oscillator: 16 MHz, 31 kHz; Max. CPU Speed MHz: 20; Operation Voltage Range: 2.3V - 5.5V; Packing: T/R; Program Memory KBytes: 3.5; Program Memory KWords: 2; RAM: 128; Timers: 2 - 8-bit, 1 - 16-bit; DatasheetVersion: Rev. A; PackageVersion: C04-087C, 12/2012; PackageReference: TSSOP-ST14; PackageDescription: 14-Lead Plastic Thin Shrink Small Outline, 5 x 4.4 mm Body, 0.65 mm Pitch; Supplier 1: Digi-Key; Supplier Part Number 1: PIC16F1503T-I/ST-ND; Supplier 2: Newark; Supplier Part Number 2: 55T3638; Supplier 3: Mouser; Supplier Part Number 3: 579-PIC16F1503T-I/ST; Memory Type: Flash; RoHS: TRUE; Mounting Technology: Surface Mount; ComponentLink1Description: Datasheet; ComponentLink1URL: http://ww1.microchip.com/downloads/en/DeviceDoc/41607A.pdf; ComponentLink2Description: Package Specification; ComponentLink2URL: http://www.microchip.com/stellent/groups/techpub_sg/documents/packagingspec/en012702.pdf; ComponentLink3Description: URL Link1; ComponentLink3URL: Product URL:http://www.microchip.com/datasheet/PIC16F1503
footprint MCHP-TSSOP-ST14_N (SOP, 14-Leads, Body 5x4.4mm, Pitch 0.65mm, IPC Medium Density)
footprint MCHP-TSSOP-ST14_L (SOP, 14-Leads, Body 5x4.4mm, Pitch 0.65mm, IPC High Density)
footprint MCHP-TSSOP-ST14_M (SOP, 14-Leads, Body 5x4.4mm, Pitch 0.65mm, IPC Low Density)
pins: 1 VDD (power) "Positive supply", 2 RA5 (io), 3 RA4 (io), 4 RA3/~{MCLR}/VPP (in), 5 RC5 (io), 6 RC4 (io), 7 RC3 (io), 8 RC2 (io), 9 RC1 (io), 10 RC0 (io), 11 RA2 (io), 12 RA1/ICSPCLK (io), 13 RA0/ICSPDAT (io), 14 VSS (power) "Ground reference."

## PIC16F1507-E/ML
designator U?
Flash, 8-Bit Microcontroller, 20 MHz, 17 I/O, -40 to 125 degC, 20-pin QFN (ML20), Tube; Manufacturer: Microchip; PartNumber: PIC16F1507-E/ML; # of A/D Channels: 12; I/O Pins: 17; Internal Oscillator: 16 MHz, 32 kHz; Max. CPU Speed MHz: 20; Operation Voltage Range: 2.3V - 5.5V; Program Memory KBytes: 3.5; Program Memory KWords: 2; RAM: 128; Timers: 2 - 8-bit, 1 - 16-bit; DatasheetVersion: Rev. A; PackageVersion: C04-126B, 12/2012; PackageReference: QFN-ML20; PackageDescription: 20-Lead Plastic Quad Flat, No Lead Package, 4 x 4 mm Body, 0.5 mm Pitch; Supplier 1: Digi-Key; Supplier Part Number 1: PIC16F1507-E/ML-ND; Supplier 2: Farnell; Supplier Part Number 2: 2045297; Supplier 3: Newark; Supplier Part Number 3: 39T6719; Supplier 4: Mouser; Supplier Part Number 4: 579-PIC16F1507-E/ML; Memory Type: Flash; Packing: TUBE; RoHS: TRUE; Mounting Technology: Surface Mount; ComponentLink1Description: Datasheet; ComponentLink1URL: http://ww1.microchip.com/downloads/en/DeviceDoc/41586A.pdf; ComponentLink2Description: Package Specification; ComponentLink2URL: http://www.microchip.com/stellent/groups/techpub_sg/documents/packagingspec/en012702.pdf; ComponentLink3Description: URL Link1; ComponentLink3URL: Product URL:http://www.microchip.com/datasheet/PIC16F1507
footprint MCHP-QFN-ML20_N (QFN, 20-Leads, Body 4x4mm, Pitch 0.5mm, Thermal Pad 2.7x2.7mm, IPC Medium Density)
footprint MCHP-QFN-ML20_L (QFN, 20-Leads, Body 4x4mm, Pitch 0.5mm, Thermal Pad 2.7x2.7mm, IPC High Density)
footprint MCHP-QFN-ML20_M (QFN, 20-Leads, Body 4x4mm, Pitch 0.5mm, Thermal Pad 2.7x2.7mm, IPC Low Density)
pins: 1 RA3/~{MCLR}/VPP (in), 2 RC5 (io), 3 RC4 (io), 4 RC3 (io), 5 RC6 (io), 6 RC7 (io), 7 RB7 (io), 8 RB6 (io), 9 RB5 (io), 10 RB4 (io), 11 RC2 (io), 12 RC1 (io), 13 RC0 (io), 14 RA2 (io), 15 RA1/ICSPCLK (io), 16 RA0/ICSPDAT (io), 17 VSS (power) "Ground reference", 18 VDD (power) "Positive supply.", 19 RA5 (io), 20 RA4 (io), 21 EP

## PIC16F1507-E/P
designator U?
Flash, 8-Bit Microcontroller, 20 MHz, 17 I/O, -40 to 125 degC, 20-pin PDIP (P20), Tube; Manufacturer: Microchip; PartNumber: PIC16F1507-E/P; # of A/D Channels: 12; I/O Pins: 17; Internal Oscillator: 16 MHz, 32 kHz; Max. CPU Speed MHz: 20; Operation Voltage Range: 2.3V - 5.5V; Program Memory KBytes: 3.5; Program Memory KWords: 2; RAM: 128; Timers: 2 - 8-bit, 1 - 16-bit; DatasheetVersion: Rev. A; PackageVersion: C04-019B, 12/2012; PackageReference: PDIP-P20; PackageDescription: 20-Lead Plastic Dual In-Line, Row Spacing 7.62 mm, 25.91 x 6.6 mm Body, 2.54 mm Pitch; Supplier 1: Digi-Key; Supplier Part Number 1: PIC16F1507-E/P-ND; Supplier 2: Farnell; Supplier Part Number 2: 2065975; Supplier 3: Newark; Supplier Part Number 3: 39T6720; Supplier 4: Mouser; Supplier Part Number 4: 579-PIC16F1507-E/P; Memory Type: Flash; Packing: TUBE; RoHS: TRUE; Mounting Technology: Through Hole; ComponentLink1Description: Datasheet; ComponentLink1URL: http://ww1.microchip.com/downloads/en/DeviceDoc/41586A.pdf; ComponentLink2Description: Package Specification; ComponentLink2URL: http://www.microchip.com/stellent/groups/techpub_sg/documents/packagingspec/en012702.pdf; ComponentLink3Description: URL Link1; ComponentLink3URL: Product URL:http://www.microchip.com/datasheet/PIC16F1507
footprint MCHP-PDIP-P20 (DIP, 20-Leads, Body 25.91x6.6mm, Pitch 2.54mm)
pins: 1 VDD (power) "Positive supply.", 2 RA5 (io), 3 RA4 (io), 4 RA3/~{MCLR}/VPP (in), 5 RC5 (io), 6 RC4 (io), 7 RC3 (io), 8 RC6 (io), 9 RC7 (io), 10 RB7 (io), 11 RB6 (io), 12 RB5 (io), 13 RB4 (io), 14 RC2 (io), 15 RC1 (io), 16 RC0 (io), 17 RA2 (io), 18 RA1/ICSPCLK (io), 19 RA0/ICSPDAT (io), 20 VSS (power) "Ground reference."

## PIC16F1507-E/SO
designator U?
Flash, 8-Bit Microcontroller, 20 MHz, 17 I/O, -40 to 125 degC, 20-pin SOIC (SO20), Tube; Manufacturer: Microchip; PartNumber: PIC16F1507-E/SO; # of A/D Channels: 12; I/O Pins: 17; Internal Oscillator: 16 MHz, 31 kHz; Max. CPU Speed MHz: 20; Operation Voltage Range: 2.3V - 5.5V; Program Memory KBytes: 3.5; Program Memory KWords: 2; RAM: 128; Timers: 2 - 8-bit, 1 - 16-bit, 0 - 32-bit; DatasheetVersion: Rev. A; PackageVersion: C04-094C, 12/2012; PackageReference: SOIC-SO20; PackageDescription: 20-Lead Plastic Small Outline, 7.5 x 12.8 mm Body, 1.27 mm Pitch; Supplier 1: Digi-Key; Supplier Part Number 1: PIC16F1507-E/SO-ND; Supplier 2: Farnell; Supplier Part Number 2: 2065977; Supplier 3: Newark; Supplier Part Number 3: 39T6721; Supplier 4: Mouser; Supplier Part Number 4: 579-PIC16F1507-E/SO; Memory Type: Flash; Packing: TUBE; RoHS: TRUE; Mounting Technology: Surface Mount; ComponentLink1Description: Datasheet; ComponentLink1URL: http://ww1.microchip.com/downloads/en/DeviceDoc/41586A.pdf; ComponentLink2Description: Package Specification; ComponentLink2URL: http://www.microchip.com/stellent/groups/techpub_sg/documents/packagingspec/en012702.pdf; ComponentLink3Description: URL Link1; ComponentLink3URL: Product URL:http://www.microchip.com/datasheet/PIC16F1507
footprint MCHP-SOIC-SO20_N (SOIC, 20-Leads, Body 12.8x7.5mm, Pitch 1.27mm, IPC Medium Density)
footprint MCHP-SOIC-SO20_L (SOIC, 20-Leads, Body 12.8x7.5mm, Pitch 1.27mm, IPC High Density)
footprint MCHP-SOIC-SO20_M (SOIC, 20-Leads, Body 12.8x7.5mm, Pitch 1.27mm, IPC Low Density)
pins: 1 VDD (power) "Positive supply.", 2 RA5 (io), 3 RA4 (io), 4 RA3/~{MCLR}/VPP (in), 5 RC5 (io), 6 RC4 (io), 7 RC3 (io), 8 RC6 (io), 9 RC7 (io), 10 RB7 (io), 11 RB6 (io), 12 RB5 (io), 13 RB4 (io), 14 RC2 (io), 15 RC1 (io), 16 RC0 (io), 17 RA2 (io), 18 RA1/ICSPCLK (io), 19 RA0/ICSPDAT (io), 20 VSS (power) "Ground reference."

## PIC16F1507-E/SS
designator U?
Flash, 8-Bit Microcontroller, 20 MHz, 17 I/O, -40 to 125 degC, 20-pin SSOP (SS20), Tube; Manufacturer: Microchip; PartNumber: PIC16F1507-E/SS; # of A/D Channels: 12; I/O Pins: 17; Internal Oscillator: 16 MHz, 31 kHz; Max. CPU Speed MHz: 20; Operation Voltage Range: 2.3V - 5.5V; Program Memory KBytes: 3.5; Program Memory KWords: 2; RAM: 128; Timers: 2 - 8-bit, 1 - 16-bit, 0 - 32-bit; DatasheetVersion: Rev. A; PackageVersion: C04-072B, 12/2012; PackageReference: SSOP-SS20; PackageDescription: 20-Lead Plastic Shrink Small Outline, 5.3 x 7.2 mm Body, 0.65 mm Pitch; Supplier 1: Digi-Key; Supplier Part Number 1: PIC16F1507-E/SS-ND; Supplier 2: Farnell; Supplier Part Number 2: 2065978; Supplier 3: Newark; Supplier Part Number 3: 39T6722; Supplier 4: Mouser; Supplier Part Number 4: 579-PIC16F1507-E/SS; Memory Type: Flash; Packing: TUBE; RoHS: TRUE; Mounting Technology: Surface Mount; ComponentLink1Description: Datasheet; ComponentLink1URL: http://ww1.microchip.com/downloads/en/DeviceDoc/41586A.pdf; ComponentLink2Description: Package Specification; ComponentLink2URL: http://www.microchip.com/stellent/groups/techpub_sg/documents/packagingspec/en012702.pdf; ComponentLink3Description: URL Link1; ComponentLink3URL: Product URL:http://www.microchip.com/datasheet/PIC16F1507
footprint MCHP-SSOP-SS20_N (SOP, 20-Leads, Body 7.2x5.3mm, Pitch 0.65mm, IPC Medium Density)
footprint MCHP-SSOP-SS20_L (SOP, 20-Leads, Body 7.2x5.3mm, Pitch 0.65mm, IPC High Density)
footprint MCHP-SSOP-SS20_M (SOP, 20-Leads, Body 7.2x5.3mm, Pitch 0.65mm, IPC Low Density)
pins: 1 VDD (power) "Positive supply.", 2 RA5 (io), 3 RA4 (io), 4 RA3/~{MCLR}/VPP (in), 5 RC5 (io), 6 RC4 (io), 7 RC3 (io), 8 RC6 (io), 9 RC7 (io), 10 RB7 (io), 11 RB6 (io), 12 RB5 (io), 13 RB4 (io), 14 RC2 (io), 15 RC1 (io), 16 RC0 (io), 17 RA2 (io), 18 RA1/ICSPCLK (io), 19 RA0/ICSPDAT (io), 20 VSS (power) "Ground reference."

## PIC16F1507-I/ML
designator U?
Flash, 8-Bit Microcontroller, 20 MHz, 17 I/O, -40 to 85 degC, 20-pin QFN (ML20), Tube; Manufacturer: Microchip; PartNumber: PIC16F1507-I/ML; # of A/D Channels: 12; I/O Pins: 17; Internal Oscillator: 16 MHz, 31 kHz; Max. CPU Speed MHz: 20; Operation Voltage Range: 2.3V - 5.5V; Program Memory KBytes: 3.5; Program Memory KWords: 2; RAM: 128; Timers: 2 - 8-bit, 1 - 16-bit, 0 - 32-bit; DatasheetVersion: Rev. A; PackageVersion: C04-126B, 12/2012; PackageReference: QFN-ML20; PackageDescription: 20-Lead Plastic Quad Flat, No Lead Package, 4 x 4 mm Body, 0.5 mm Pitch; Supplier 1: Digi-Key; Supplier Part Number 1: PIC16F1507-I/ML-ND; Supplier 2: Farnell; Supplier Part Number 2: 1971865; Supplier 3: Newark; Supplier Part Number 3: 39T6723; Supplier 4: Mouser; Supplier Part Number 4: 579-PIC16F1507-I/ML; Memory Type: Flash; Packing: TUBE; RoHS: TRUE; Mounting Technology: Surface Mount; ComponentLink1Description: Datasheet; ComponentLink1URL: http://ww1.microchip.com/downloads/en/DeviceDoc/41586A.pdf; ComponentLink2Description: Package Specification; ComponentLink2URL: http://www.microchip.com/stellent/groups/techpub_sg/documents/packagingspec/en012702.pdf; ComponentLink3Description: URL Link1; ComponentLink3URL: Product URL:http://www.microchip.com/datasheet/PIC16F1507
footprint MCHP-QFN-ML20_N (QFN, 20-Leads, Body 4x4mm, Pitch 0.5mm, Thermal Pad 2.7x2.7mm, IPC Medium Density)
footprint MCHP-QFN-ML20_L (QFN, 20-Leads, Body 4x4mm, Pitch 0.5mm, Thermal Pad 2.7x2.7mm, IPC High Density)
footprint MCHP-QFN-ML20_M (QFN, 20-Leads, Body 4x4mm, Pitch 0.5mm, Thermal Pad 2.7x2.7mm, IPC Low Density)
pins: 1 RA3/~{MCLR}/VPP (in), 2 RC5 (io), 3 RC4 (io), 4 RC3 (io), 5 RC6 (io), 6 RC7 (io), 7 RB7 (io), 8 RB6 (io), 9 RB5 (io), 10 RB4 (io), 11 RC2 (io), 12 RC1 (io), 13 RC0 (io), 14 RA2 (io), 15 RA1/ICSPCLK (io), 16 RA0/ICSPDAT (io), 17 VSS (power) "Ground reference", 18 VDD (power) "Positive supply.", 19 RA5 (io), 20 RA4 (io), 21 EP

## PIC16F1507-I/P
designator U?
Flash, 8-Bit Microcontroller, 20 MHz, 17 I/O, -40 to 85 degC, 20-pin PDIP (P20), Tube; Manufacturer: Microchip; PartNumber: PIC16F1507-I/P; # of A/D Channels: 12; I/O Pins: 17; Internal Oscillator: 16 MHz, 31 kHz; Max. CPU Speed MHz: 20; Operation Voltage Range: 2.3V - 5.5V; Program Memory KBytes: 3.5; Program Memory KWords: 2; RAM: 128; Timers: 2 - 8-bit, 1 - 16-bit, 0 - 32-bit; DatasheetVersion: Rev. A; PackageVersion: C04-019B, 12/2012; PackageReference: PDIP-P20; PackageDescription: 20-Lead Plastic Dual In-Line, Row Spacing 7.62 mm, 25.91 x 6.6 mm Body, 2.54 mm Pitch; Supplier 1: Digi-Key; Supplier Part Number 1: PIC16F1507-I/P-ND; Supplier 2: Farnell; Supplier Part Number 2: 1971866; Supplier 3: Newark; Supplier Part Number 3: 39T6724; Supplier 4: Mouser; Supplier Part Number 4: 579-PIC16F1507-I/P; Memory Type: Flash; Packing: TUBE; RoHS: TRUE; Mounting Technology: Through Hole; ComponentLink1Description: Datasheet; ComponentLink1URL: http://ww1.microchip.com/downloads/en/DeviceDoc/41586A.pdf; ComponentLink2Description: Package Specification; ComponentLink2URL: http://www.microchip.com/stellent/groups/techpub_sg/documents/packagingspec/en012702.pdf; ComponentLink3Description: URL Link1; ComponentLink3URL: Product URL:http://www.microchip.com/datasheet/PIC16F1507
footprint MCHP-PDIP-P20 (DIP, 20-Leads, Body 25.91x6.6mm, Pitch 2.54mm)
pins: 1 VDD (power) "Positive supply.", 2 RA5 (io), 3 RA4 (io), 4 RA3/~{MCLR}/VPP (in), 5 RC5 (io), 6 RC4 (io), 7 RC3 (io), 8 RC6 (io), 9 RC7 (io), 10 RB7 (io), 11 RB6 (io), 12 RB5 (io), 13 RB4 (io), 14 RC2 (io), 15 RC1 (io), 16 RC0 (io), 17 RA2 (io), 18 RA1/ICSPCLK (io), 19 RA0/ICSPDAT (io), 20 VSS (power) "Ground reference."

## PIC16F1507-I/SO
designator U?
Flash, 8-Bit Microcontroller, 20 MHz, 17 I/O, -40 to 85 degC, 20-pin SOIC (SO20), Tube; Manufacturer: Microchip; PartNumber: PIC16F1507-I/SO; # of A/D Channels: 12; I/O Pins: 17; Internal Oscillator: 16 MHz, 31 kHz; Max. CPU Speed MHz: 20; Operation Voltage Range: 2.3V - 5.5V; Program Memory KBytes: 3.5; Program Memory KWords: 2; RAM: 128; Timers: 2 - 8-bit, 1 - 16-bit, 0 - 32-bit; DatasheetVersion: Rev. A; PackageVersion: C04-094C, 12/2012; PackageReference: SOIC-SO20; PackageDescription: 20-Lead Plastic Small Outline, 7.5 x 12.8 mm Body, 1.27 mm Pitch; Supplier 1: Digi-Key; Supplier Part Number 1: PIC16F1507-I/SO-ND; Supplier 2: Farnell; Supplier Part Number 2: 1971867; Supplier 3: Newark; Supplier Part Number 3: 39T6725; Supplier 4: Mouser; Supplier Part Number 4: 579-PIC16F1507-I/SO; Memory Type: Flash; Packing: TUBE; RoHS: TRUE; Mounting Technology: Surface Mount; ComponentLink1Description: Datasheet; ComponentLink1URL: http://ww1.microchip.com/downloads/en/DeviceDoc/41586A.pdf; ComponentLink2Description: Package Specification; ComponentLink2URL: http://www.microchip.com/stellent/groups/techpub_sg/documents/packagingspec/en012702.pdf; ComponentLink3Description: URL Link1; ComponentLink3URL: Product URL:http://www.microchip.com/datasheet/PIC16F1507
footprint MCHP-SOIC-SO20_N (SOIC, 20-Leads, Body 12.8x7.5mm, Pitch 1.27mm, IPC Medium Density)
footprint MCHP-SOIC-SO20_L (SOIC, 20-Leads, Body 12.8x7.5mm, Pitch 1.27mm, IPC High Density)
footprint MCHP-SOIC-SO20_M (SOIC, 20-Leads, Body 12.8x7.5mm, Pitch 1.27mm, IPC Low Density)
pins: 1 VDD (power) "Positive supply.", 2 RA5 (io), 3 RA4 (io), 4 RA3/~{MCLR}/VPP (in), 5 RC5 (io), 6 RC4 (io), 7 RC3 (io), 8 RC6 (io), 9 RC7 (io), 10 RB7 (io), 11 RB6 (io), 12 RB5 (io), 13 RB4 (io), 14 RC2 (io), 15 RC1 (io), 16 RC0 (io), 17 RA2 (io), 18 RA1/ICSPCLK (io), 19 RA0/ICSPDAT (io), 20 VSS (power) "Ground reference."

## PIC16F1507-I/SS
designator U?
Flash, 8-Bit Microcontroller, 20 MHz, 17 I/O, -40 to 85 degC, 20-pin SSOP (SS20), Tube; Manufacturer: Microchip; PartNumber: PIC16F1507-I/SS; # of A/D Channels: 12; I/O Pins: 17; Internal Oscillator: 16 MHz, 31 kHz; Max. CPU Speed MHz: 20; Operation Voltage Range: 2.3V - 5.5V; Program Memory KBytes: 3.5; Program Memory KWords: 2; RAM: 128; Timers: 2 - 8-bit, 1 - 16-bit, 0 - 32-bit; DatasheetVersion: Rev. A; PackageVersion: C04-072B, 12/2012; PackageReference: SSOP-SS20; PackageDescription: 20-Lead Plastic Shrink Small Outline, 5.3 x 7.2 mm Body, 0.65 mm Pitch; Supplier 1: Digi-Key; Supplier Part Number 1: PIC16F1507-I/SS-ND; Supplier 2: Farnell; Supplier Part Number 2: 1971868; Supplier 3: Newark; Supplier Part Number 3: 39T6726; Supplier 4: Mouser; Supplier Part Number 4: 579-PIC16F1507-I/SS; Memory Type: Flash; Packing: TUBE; RoHS: TRUE; Mounting Technology: Surface Mount; ComponentLink1Description: Datasheet; ComponentLink1URL: http://ww1.microchip.com/downloads/en/DeviceDoc/41586A.pdf; ComponentLink2Description: Package Specification; ComponentLink2URL: http://www.microchip.com/stellent/groups/techpub_sg/documents/packagingspec/en012702.pdf; ComponentLink3Description: URL Link1; ComponentLink3URL: Product URL:http://www.microchip.com/datasheet/PIC16F1507
footprint MCHP-SSOP-SS20_N (SOP, 20-Leads, Body 7.2x5.3mm, Pitch 0.65mm, IPC Medium Density)
footprint MCHP-SSOP-SS20_L (SOP, 20-Leads, Body 7.2x5.3mm, Pitch 0.65mm, IPC High Density)
footprint MCHP-SSOP-SS20_M (SOP, 20-Leads, Body 7.2x5.3mm, Pitch 0.65mm, IPC Low Density)
pins: 1 VDD (power) "Positive supply.", 2 RA5 (io), 3 RA4 (io), 4 RA3/~{MCLR}/VPP (in), 5 RC5 (io), 6 RC4 (io), 7 RC3 (io), 8 RC6 (io), 9 RC7 (io), 10 RB7 (io), 11 RB6 (io), 12 RB5 (io), 13 RB4 (io), 14 RC2 (io), 15 RC1 (io), 16 RC0 (io), 17 RA2 (io), 18 RA1/ICSPCLK (io), 19 RA0/ICSPDAT (io), 20 VSS (power) "Ground reference."